# Altium footprint library Lib1.PcbLib: 32 footprints (part 1 of 2)
Each footprint in its own frame and in the unit in brackets; x right, y up, seen from the top. Pads: shape width x height; smd on the part's side, far side on the other; paste and mask are expansions set on the pad; w line width, h text height; cw(c..) or ccw(c..) is an arc to the next point about the centre after c.
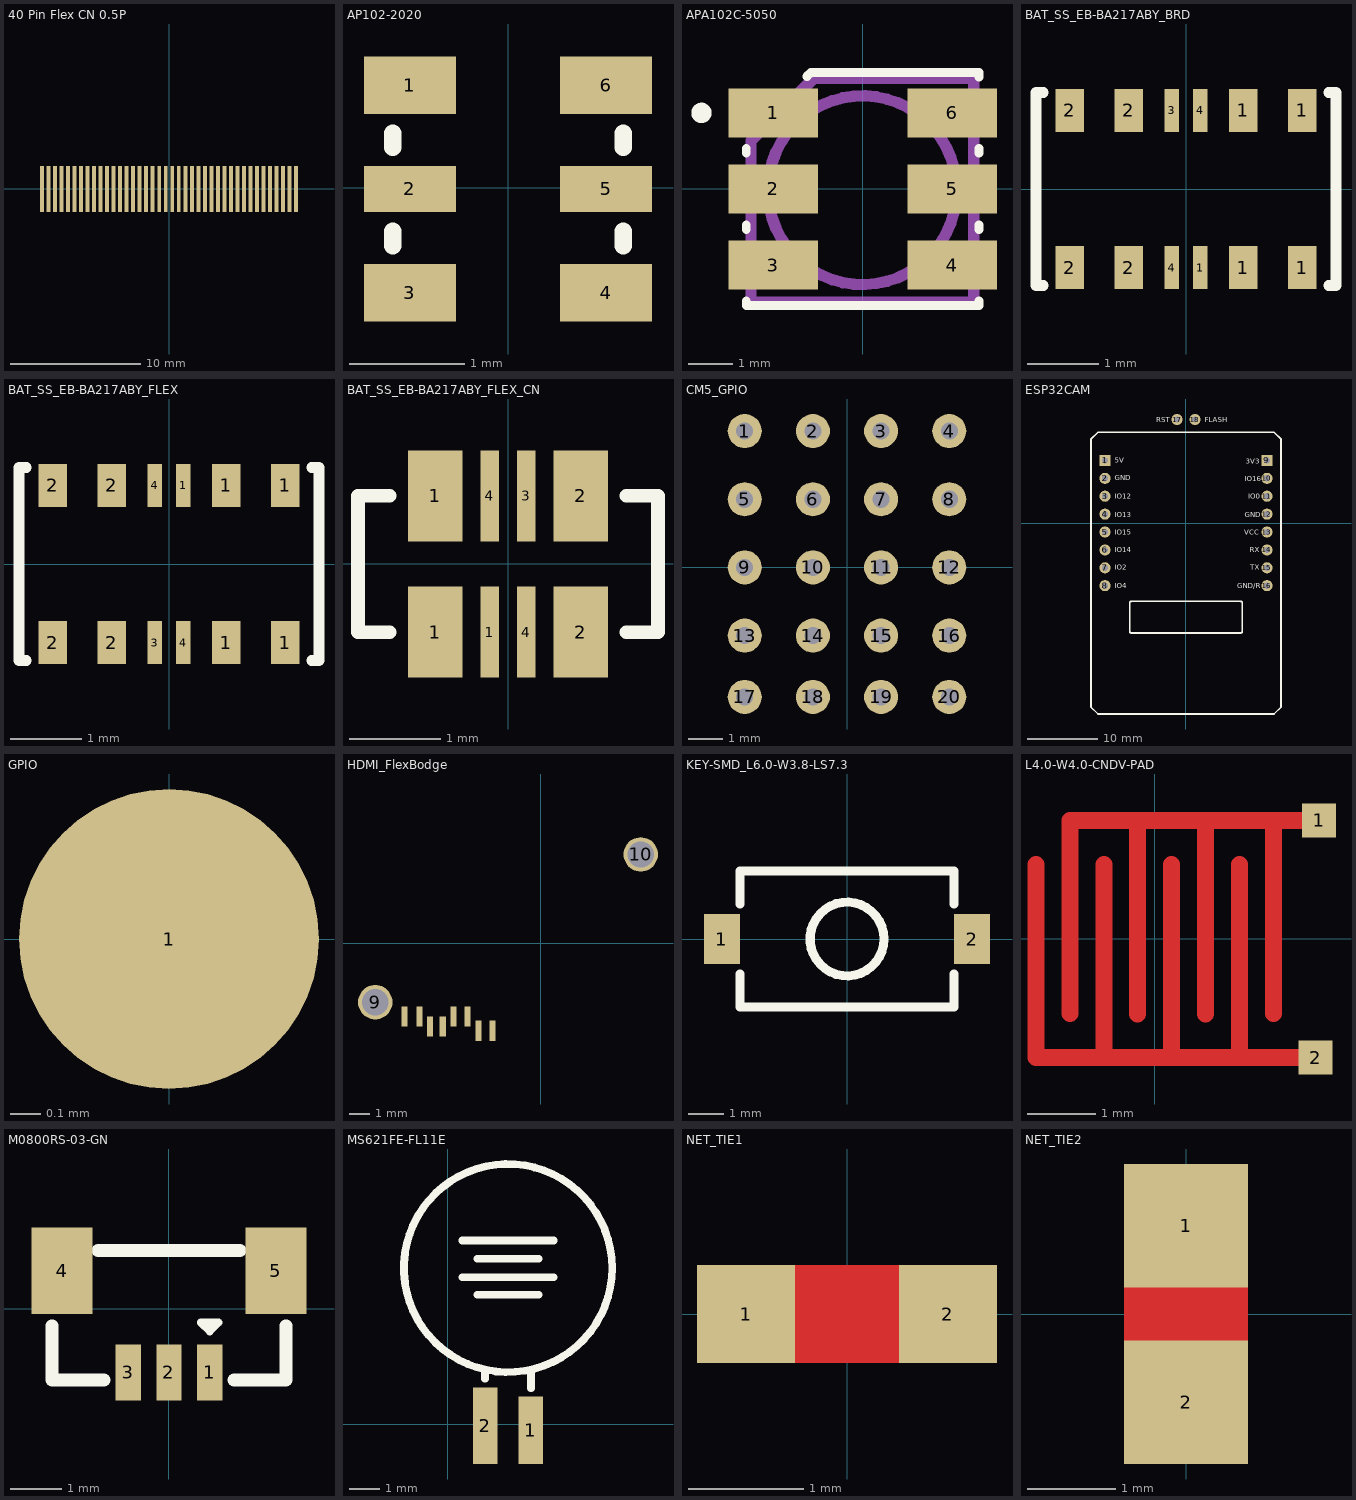
[diagram p0: the footprints below, top view; thin cyan lines are the x and y axes]

## 40 Pin Flex CN 0.5P [mm]
pads (40):
  rect 0.3x3.5 smd: 1(9.748,0) 2(9.248,0) 3(8.748,0) 4(8.248,0) 5(7.748,0) 6(7.248,-0.002) 7(6.748,-0.002) 8(6.248,-0.002) 9(5.748,-0.002) 10(5.248,-0.002) 11(4.748,0) 12(4.248,0) 13(3.748,0) 14(3.248,0) 15(2.748,0) 16(2.248,-0.002) 17(1.748,-0.002) 18(1.248,-0.002) 19(0.748,-0.002) 20(0.248,-0.002) 21(-0.252,0) 22(-0.752,0) 23(-1.252,0) 24(-1.752,0) 25(-2.252,0) 26(-2.752,-0.002) 27(-3.252,-0.002) 28(-3.752,-0.002) 29(-4.252,-0.002) 30(-4.752,-0.002) 31(-5.252,0) 32(-5.752,0) 33(-6.252,0) 34(-6.752,0) 35(-7.252,0) 36(-7.752,-0.002) 37(-8.252,-0.002) 38(-8.752,-0.002) 39(-9.252,-0.002) 40(-9.752,-0.002)

## AP102-2020 [mm]
pads (6):
  rect 0.8x0.5 smd mask+0.051: 1(-0.85,0.891) 3(-0.85,-0.909) 4(0.85,-0.909) 6(0.85,0.891)
  rect 0.8x0.4 smd mask+0.051: 2(-0.85,-0.009) 5(0.85,-0.009)
Top Overlay:
  lines w0.15: -1,-0.5 -1,-0.375 ; -1,0.35 -1,0.475 ; 1,-0.5 1,-0.375 ; 1,0.35 1,0.475
3D body "APA102-2020.step": height 0.9, standoff 0, extent -1.01,-1.025 1.01,0.995

## APA102C-5050 [mm]
pads (6):
  rect 2x1.1 smd: 1(-2,1.7) 2(-2,0) 3(-2,-1.7) 4(2,-1.7) 5(2,0) 6(2,1.7)
Top Overlay:
  circle w0.254: c-3.6,1.7 r0.1
  lines w0.2: -2.6,-2.5 -2.6,-2.6 2.6,-2.6 2.6,-2.5 ; -2.6,-0.9 -2.6,-0.8 ; -2.6,0.8 -2.6,0.9 ; -1.245,2.514 -1.159,2.6 -1.1,2.6 2.5,2.6 2.6,2.6 2.6,2.5 ; 2.6,-0.9 2.6,-0.8 ; 2.6,0.8 2.6,0.9
Top 3D Body:
  circle w0.254: c-0.008,-0.027 r2.108
  lines w0.254: -2.493,-2.525 2.482,-2.525 2.482,2.475 -1.093,2.475 -2.493,1.075 -2.493,-2.525
3D body "APA102C.STEP": height 1.53, standoff -0.02, extent -2.758,-2.527 2.742,2.473

## BAT_SS_EB-BA217ABY_BRD [mm]
pads (12):
  rect 0.2x0.6 smd mask+0.051: 1(0.2,-1.1) 3(-0.2,1.1) 4(-0.2,-1.1) 4(0.2,1.1)
  rect 0.4x0.6 smd mask+0.051: 1(0.8,-1.1) 1(0.8,1.1) 1(1.625,-1.1) 1(1.625,1.1) 2(-1.625,-1.1) 2(-1.625,1.1) 2(-0.8,-1.1) 2(-0.8,1.1)
Top Overlay:
  lines w0.15: -2,-1.35 -2.1,-1.35 -2.1,1.35 -2,1.35 ; 2,-1.35 2.1,-1.35 2.1,1.35 2,1.35

## BAT_SS_EB-BA217ABY_FLEX [mm]
pads (12):
  rect 0.2x0.6 smd mask+0.051: 1(0.2,1.1) 3(-0.2,-1.1) 4(-0.2,1.1) 4(0.2,-1.1)
  rect 0.4x0.6 smd mask+0.051: 1(0.8,-1.1) 1(0.8,1.1) 1(1.625,-1.1) 1(1.625,1.1) 2(-1.625,-1.1) 2(-1.625,1.1) 2(-0.8,-1.1) 2(-0.8,1.1)
Top Overlay:
  lines w0.15: -2,-1.35 -2.1,-1.35 -2.1,1.35 -2,1.35 ; 2,-1.35 2.1,-1.35 2.1,1.35 2,1.35

## BAT_SS_EB-BA217ABY_FLEX_CN [mm] "Samsung 5Ah Battery Flex Connector"
pads (8):
  rect 0.6x1 smd mask+0.051: 1(-0.8,-0.75) 1(-0.8,0.75) 2(0.8,-0.75) 2(0.8,0.75)
  rect 0.2x1 smd mask+0.051: 1(-0.2,-0.75) 3(0.2,0.75) 4(-0.2,0.75) 4(0.2,-0.75)
Top Overlay:
  lines w0.15: -1.302,-0.751 -1.65,-0.751 -1.65,0.749 -1.302,0.749 ; 1.302,-0.75 1.65,-0.75 1.65,0.75 1.302,0.75

## CM5_GPIO [mm]
pads (20):
  round 1 hole 0.5: 1(-3,4) 2(-1,4) 3(1,4) 4(3,4) 5(-3,2) 6(-1,2) 7(1,2) 8(3,2) 9(-3,0) 10(-1,0) 11(1,0) 12(3,0) 13(-3,-2) 14(-1,-2) 15(1,-2) 16(3,-2) 17(-3,-3.8) 18(-1,-3.8) 19(1,-3.8) 20(3,-3.8)

## ESP32CAM [mm]
pads (18):
  rect 1.575x1.575 hole 0.889: 1(-11.5,8.89) 9(11.5,8.89)
  round 1.575 hole 0.889: 2(-11.5,6.35) 3(-11.5,3.81) 4(-11.5,1.27) 5(-11.5,-1.27) 6(-11.5,-3.81) 7(-11.5,-6.35) 8(-11.5,-8.89) 10(11.5,6.35) 11(11.5,3.81) 12(11.5,1.27) 13(11.5,-1.27) 14(11.5,-3.81) 15(11.5,-6.35) 16(11.5,-8.89) 17(-1.27,14.7) 18(1.27,14.7)
Top Overlay:
  lines w0.254: -13.5,-26.11 -12.5,-27.11 12.5,-27.11 13.5,-26.11 13.5,11.89 12.5,12.89 -12.5,12.89 -13.5,11.89 -13.5,-26.11 ; -8,-15.356 ccw(c-7.746,-15.356) -7.746,-15.61 7.746,-15.61 ccw(c7.746,-15.356) 8,-15.356 8,-11.364 ccw(c7.746,-11.364) 7.746,-11.11 -7.746,-11.11 ccw(c-7.746,-11.364) -8,-11.364 -8,-15.356
  text "FLASH" at 2.65,14.35 h0.7
  text "RST" at -4.25,14.35 h0.7
  text "IO2" at -10.15,-6.65 h0.7
  text "IO4" at -10.15,-9.25 h0.7
  text "IO15" at -10.15,-1.65 h0.7
  text "IO14" at -10.15,-4.15 h0.7
  text "IO13" at -10.15,0.85 h0.7
  text "IO12" at -10.15,3.45 h0.7
  text "GND" at -10.15,6.05 h0.7
  text "5V" at -10.15,8.55 h0.7
  text "GND/R" at 7.25,-9.25 h0.7
  text "TX" at 9.15,-6.65 h0.7
  text "RX" at 9.05,-4.15 h0.7
  text "VCC" at 8.25,-1.65 h0.7
  text "GND" at 8.35,0.85 h0.7
  text "IO0" at 8.85,3.45 h0.7
  text "IO16" at 8.35,5.95 h0.7
  text "3V3" at 8.45,8.45 h0.7

## GPIO [mm] "AUX GPIO PAD"
pads (1):
  round 1 smd paste-2539.97 mask+0.051: 1(0,0.001)

## HDMI_FlexBodge [mm]
pads (10):
  rect 0.3x1 smd: 1(-6.7,-3.6) 2(-5.975,-3.6) 3(-5.45,-4.1) 4(-4.825,-4.1) 5(-4.3,-3.6) 6(-3.6,-3.6) 7(-3.075,-4.3) 8(-2.375,-4.3)
  round 1.7 hole 1.3: 9(-8.15,-2.9) 10(4.925,4.375)

## KEY-SMD_L6.0-W3.8-LS7.3 [mm]
pads (2):
  rect 1x1.4 smd mask+0.051: 1(-3.5,0) 2(3.5,0)
Top Overlay:
  circle w0.254: c0,0 r1.034
  lines w0.254: -3,-0.975 -3,-1.9 3,-1.9 3,-0.975 ; -3,0.975 -3,1.9 3,1.9 3,0.975

## L4.0-W4.0-CNDV-PAD [mm] "Conductive Pad Switch"
pads (2):
  rect 0.5x0.5 smd mask+0: 1(2.425,1.75) 2(2.375,-1.75)
Top Layer:
  lines w0.25: -1.75,1.1 -1.75,-1.75 2.125,-1.75 2.375,-1.75 ; -1.25,-1.1 -1.25,1.75 2.425,1.75 ; -0.75,-1.75 -0.75,1.1 ; -0.25,-1.107 -0.25,1.75 ; 0.25,-1.75 0.25,1.1 ; 0.75,-1.107 0.75,1.75 ; 1.25,-1.75 1.25,1.1 ; 1.75,-1.1 1.75,1.75

## M0800RS-03-GN [mm]
pads (5):
  rect 0.5x1.1 smd paste+0 mask+0.051: 1(0.802,-1.257) 2(0.002,-1.257) 3(-0.798,-1.257)
  rect 1.2x1.7 smd paste+0 mask+0.051: 4(-2.098,0.743) 5(2.102,0.743)
Top Overlay:
  lines w0.15: 0.8,-0.45 0.975,-0.275 0.625,-0.275 0.8,-0.45 ; 0.8,-0.45 0.8,-0.45
  lines w0.254: -2.298,-0.338 -2.298,-1.407 -1.279,-1.407 ; -1.398,1.143 1.402,1.143 ; 1.283,-1.407 2.302,-1.407 2.302,-0.338

## MS621FE-FL11E [mm]
pads (2):
  rect 0.8x2.2 smd mask+0.05: 1(2.725,-0.2)
  rect 0.8x2.5 smd mask+0.05: 2(1.225,-0.05)
Top Overlay:
  circle w0.25: c1.975,5.1 r3.4
  lines w0.25: 0.475,4.8 3.475,4.8 ; 0.475,6 3.475,6 ; 0.975,4.225 2.975,4.225 ; 0.981,5.4 2.981,5.4 ; 1.225,1.482 1.225,1.784 ; 2.725,1.175 2.725,1.784
3D body "MS621FE-FL11E.stp": height 2.89, standoff -0.01, extent -1.425,-0.8 5.375,8.5

## NET_TIE1 [mm]
pads (2):
  rect 0.85x0.85 smd paste-2539.97 mask+0.051: 1(-0.875,0) 2(0.875,0)
Top Layer:
  lines w0.85: -0.875,0 0.875,0

## NET_TIE2 [mm]
pads (2):
  rect 1.4x1.4 smd: 1(0,1) 2(0,-1)
Top Layer:
  lines w1.4: 0,-1 0,1